# EAGLE library part MICROMATCH_1X6 (library custom-connectors)
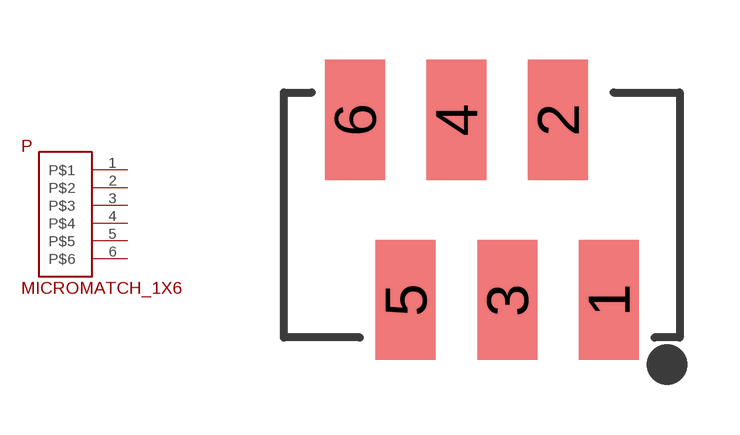
[diagram p25: symbol with the pads of 1X6_MICROMATCH; footprint 1X6_MICROMATCH]

Designator prefix P

## MICROMATCH_1X6  [1X6_MICROMATCH]
1  P$1
2  P$2
3  P$3
4  P$4
5  P$5
6  P$6

## Footprint 1X6_MICROMATCH (pad centres in mm)
smd 1.5 x 3: 1 3.175,-2.353; 2 1.905,2.156; 3 0.635,-2.353; 4 -0.635,2.156; 5 -1.905,-2.353; 6 -3.175,2.156